# Altium schematic symbol library DIP SWITCH.SchLib: 5 symbols
Pins are listed as number, name and electrical type; pins without a type are passive.

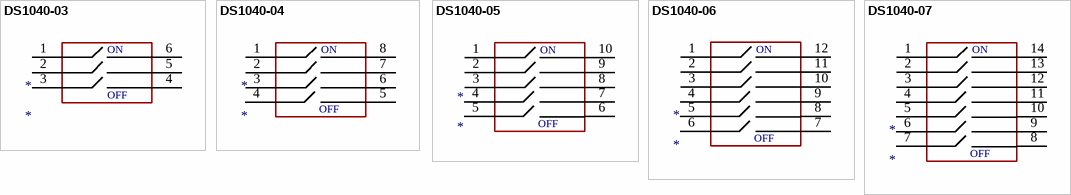
[diagram p0: symbols DS1040-03 to DS1040-07]

## DS1040-03
designator *
DS1040-03RN
footprint DS1040-03
pins: 1 COM_1, 2 COM_2, 3 COM_3, 4 NO_2, 5 NO_3, 6 NO_4
text: ON; OFF

## DS1040-04
designator *
DS1040-04RN
footprint DS1040-04
pins: 1 COM_1, 2 COM_2, 3 COM_3, 4 COM_3, 5 NO_2, 6 NO_2, 7 NO_3, 8 NO_4
text: ON; OFF

## DS1040-05
designator *
DS1040-05RN
footprint DS1040-05
pins: 1 COM_1, 2 COM_2, 3 COM_3, 4 COM_3, 5 COM_3, 6 NO_2, 7 NO_2, 8 NO_2, 9 NO_3, 10 NO_4
text: ON; OFF

## DS1040-06
designator *
DS1040-06RN
footprint DS1040-06
pins: 1 COM_1, 2 COM_2, 3 COM_3, 4 COM_3, 5 COM_3, 6 COM_3, 7 NO_2, 8 NO_2, 9 NO_2, 10 NO_2, 11 NO_3, 12 NO_4
text: ON; OFF

## DS1040-07
designator *
DS1040-07RN
footprint DS1040-07
pins: 1 COM_1, 2 COM_2, 3 COM_3, 4 COM_3, 5 COM_3, 6 COM_3, 7 COM_3, 8 NO_2, 9 NO_2, 10 NO_2, 11 NO_2, 12 NO_2, 13 NO_3, 14 NO_4
text: ON; OFF